# Altium footprint library MCUFINAL 06-1-2026-REVIEW 6.PcbLib: 26 footprints (part 1 of 2)
Each footprint in its own frame and in the unit in brackets; x right, y up, seen from the top. Pads: shape width x height; smd on the part's side, far side on the other; paste and mask are expansions set on the pad; w line width, h text height; cw(c..) or ccw(c..) is an arc to the next point about the centre after c.
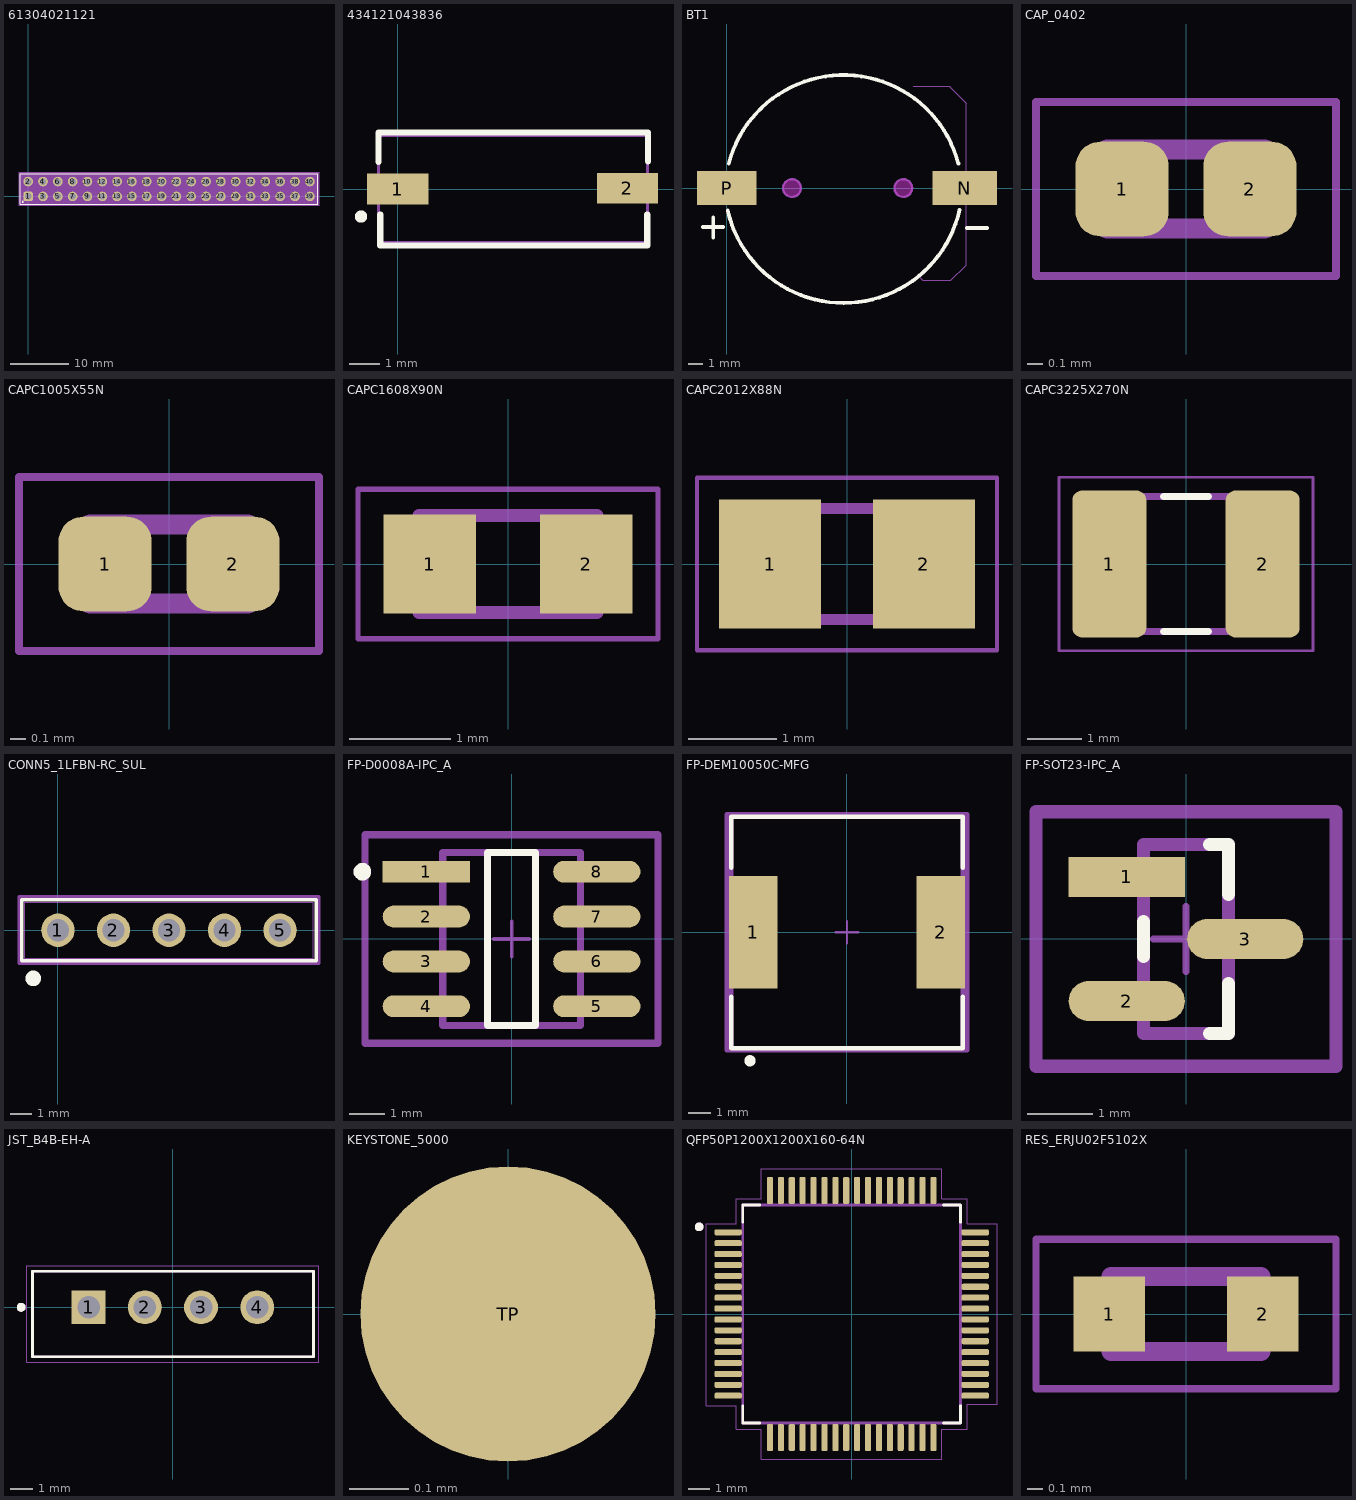
[diagram p0: the footprints below, top view; thin cyan lines are the x and y axes]

## 61304021121 [mm]
pads (40):
  rrect50% 1.65x1.65 hole 1.1: 1(0,0)
  round 1.65 hole 1.1: 2(0,2.54) 3(2.54,0) 4(2.54,2.54) 5(5.08,0) 6(5.08,2.54) 7(7.62,0) 8(7.62,2.54) 9(10.16,0) 10(10.16,2.54) 11(12.7,0) 12(12.7,2.54) 13(15.24,0) 14(15.24,2.54) 15(17.78,0) 16(17.78,2.54) 17(20.32,0) 18(20.32,2.54) 19(22.86,0) 20(22.86,2.54) 21(25.4,0) 22(25.4,2.54) 23(27.94,0) 24(27.94,2.54) 25(30.48,0) 26(30.48,2.54) 27(33.02,0) 28(33.02,2.54) 29(35.56,0) 30(35.56,2.54) 31(38.1,0) 32(38.1,2.54) 33(40.64,0) 34(40.64,2.54) 35(43.18,0) 36(43.18,2.54) 37(45.72,0) 38(45.72,2.54) 39(48.26,0) 40(48.26,2.54)
Top Overlay:
  circle w0.2: c-0.93,-0.93 r0.1
  lines w0.2: -1.37,-1.37 49.63,-1.37 49.63,3.91 -1.37,3.91 -1.37,-1.37
Mechanical 13:
  lines w0.1: -1.27,-1.27 49.53,-1.27 49.53,3.81 -1.27,3.81 -1.27,-1.27
Mechanical 15:
  region: 49.83,-1.57 -1.57,-1.57 -1.57,4.11 49.83,4.11
3D body "61304021121+%28rev1%29.stp": height 8.77, standoff -2.77, extent -1.27,-1.27 49.53,3.81

## 434121043836 [mm]
pads (2):
  rect 2x1 smd paste+0 mask+0.102: 1(0,0) 2(7.5,0.025)
Top Overlay:
  circle w0.2: c-1.2,-0.9 r0.1
  lines w0.2: -0.625,0.879 -0.625,1.85 8.175,1.85 8.175,0.901 ; -0.575,-0.829 -0.575,-1.85 8.15,-1.85 8.15,-0.832
Mechanical 13:
  lines w0.1: -0.625,-1.75 -0.625,1.75 8.15,1.75 8.15,-1.75 -0.625,-1.75
3D body "434121043836+%28rev1%29.stp": height 4.3, standoff 0, extent -0.25,-1.75 7.75,1.75

## BT1 [mm]
pads (2):
  rect 4.35x2.3 smd: N(16.039,0)
  rect 4x2.3 smd: P(0,0)
Top Overlay:
  lines w0.254: -1.6,-2.625 -0.225,-2.625 ; -0.9,-3.35 -0.9,-1.975 ; 0.07,-1.508 ccw(c7.874,0.254) 15.683,-1.481 ; 0.136,1.649 cw(c7.874,-0.381) 15.612,1.649 ; 16.175,-2.7 17.55,-2.7
Keep-Out Layer:
  board cut-out: 3.8,0 3.8,-0.119 3.891,-0.34 4.06,-0.509 4.281,-0.6 4.4,-0.6 4.519,-0.6 4.74,-0.509 4.909,-0.34 5,-0.119 5,0 5,0.119 4.909,0.34 4.74,0.509 4.519,0.6 4.4,0.6 4.281,0.6 4.06,0.509 3.891,0.34 3.8,0.119
  board cut-out: 11.3,0 11.3,-0.119 11.391,-0.34 11.56,-0.509 11.781,-0.6 11.9,-0.6 12.019,-0.6 12.24,-0.509 12.409,-0.34 12.5,-0.119 12.5,0 12.5,0.119 12.409,0.34 12.24,0.509 12.019,0.6 11.9,0.6 11.781,0.6 11.56,0.509 11.391,0.34 11.3,0.119
Mechanical 1:
  circle w0.152: c4.4,0 r0.6
  circle w0.152: c11.9,0 r0.6
  lines w0.05: 12.573,6.858 14.986,6.858 16.129,5.715 16.129,0.127 16.129,-5.207 15.113,-6.223 13.208,-6.223 12.827,-5.842
3D body "CR1220-2.stp": height 4, standoff -0.7, extent -1.75,-7.464 17.95,7.4

## CAP_0402 [mm]
pads (2):
  rrect53% 0.59x0.6 smd: 1(-0.405,0) 2(0.405,0)
Mechanical 13:
  lines w0.127: -0.5,-0.25 0.5,-0.25 0.5,0.25 -0.5,0.25 -0.5,-0.25
Mechanical 15:
  lines w0.05: -0.95,-0.55 0.95,-0.55 0.95,0.55 -0.95,0.55 -0.95,-0.55
3D body "step_temp.STEP": height 0.55, standoff 0, extent -0.5,-0.25 0.5,0.25

## CAPC1005X55N [mm]
pads (2):
  rrect53% 0.59x0.6 smd: 1(-0.405,0) 2(0.405,0)
Mechanical 13:
  lines w0.127: -0.5,-0.25 0.5,-0.25 0.5,0.25 -0.5,0.25 -0.5,-0.25
Mechanical 15:
  lines w0.05: -0.95,-0.55 0.95,-0.55 0.95,0.55 -0.95,0.55 -0.95,-0.55
3D body "step_temp.STEP": height 0.55, standoff 0, extent -0.5,-0.25 0.5,0.25

## CAPC1608X90N [mm]
pads (2):
  rect 0.92x0.98 smd: 1(-0.775,0) 2(0.775,0)
Mechanical 13:
  lines w0.127: -0.88,-0.48 -0.88,0.48 0.88,0.48 0.88,-0.48 -0.88,-0.48
Mechanical 15:
  lines w0.05: -1.485,-0.74 -1.485,0.74 1.485,0.74 1.485,-0.74 -1.485,-0.74
3D body "step_temp.STEP": height 0.9, standoff 0, extent -0.8,-0.405 0.8,0.405

## CAPC2012X88N [mm]
pads (2):
  rect 1.16x1.47 smd: 1(-0.875,0) 2(0.875,0)
Mechanical 13:
  lines w0.127: -1,-0.63 -1,0.63 1,0.63 1,-0.63 -1,-0.63
Mechanical 15:
  lines w0.05: -1.708,-0.983 -1.708,0.983 1.708,0.983 1.708,-0.983 -1.708,-0.983
3D body "step_temp.STEP": height 0.88, standoff 0, extent -1,-0.625 1,0.625

## CAPC3225X270N [mm]
pads (2):
  rrect25% 1.37x2.72 smd: 1(-1.421,0) 2(1.421,0)
Top Overlay:
  lines w0.127: -0.42,-1.25 0.42,-1.25 ; -0.42,1.25 0.42,1.25
Mechanical 13:
  lines w0.127: -1.6,-1.25 -1.6,1.25 1.6,1.25 1.6,-1.25 -1.6,-1.25
Mechanical 15:
  lines w0.05: -2.356,-1.61 -2.356,1.61 2.356,1.61 2.356,-1.61 -2.356,-1.61
3D body "step_temp.STEP": height 2.7, standoff 0, extent -1.6,-1.25 1.6,1.25

## CONN5_1LFBN-RC_SUL [mil]
pads (5):
  round 60 hole 40 paste-99999 mask+0: 1(0,0) 2(100,0) 3(200,0) 4(300,0) 5(400,0)
Top Overlay:
  circle w20: c-44.29,-86.61 r3.94
  lines w6: -65,-55 465,-55 465,55 -65,55 -65,-55
Bottom Overlay:
  circle w20: c-44.29,-87.6 r3.94
Mechanical 13:
  lines w1: -60,-50 460,-50 460,50 -60,50 -60,-50
Mechanical 15:
  lines w6: -70,-60 -70,60 470,60 470,-60 -70,-60
3D body "PPTC051LFBN-RC.STEP": height 335, standoff -126, extent -60,-50 460,50

## FP-D0008A-IPC_A [mm]
pads (8):
  rect 2.469x0.622 smd paste+0 mask+0: 1(-2.414,1.905)
  rrect100% 2.469x0.622 smd paste+0 mask+0: 2(-2.414,0.635) 3(-2.414,-0.635) 4(-2.414,-1.905) 5(2.414,-1.905) 6(2.414,-0.635) 7(2.414,0.635) 8(2.414,1.905)
Top Overlay:
  circle w0.25: c-4.223,1.905 r0.125
  lines w0.2: -0.679,-2.452 -0.679,2.453 0.679,2.453 0.679,-2.452 -0.679,-2.452
Top 3D Body:
  lines w0.2: -1.947,-2.452 -1.947,2.453 1.947,2.453 1.947,-2.452 -1.947,-2.452
Top Courtyard:
  lines w0.2: -4.148,-2.953 -4.148,2.952 4.148,2.952 4.148,-2.953 -4.148,-2.953
Top Assembly:
  lines w0.2: -4.148,-2.953 -4.148,2.952 4.148,2.952 4.148,-2.953 -4.148,-2.953
  text ".Designator" at 0,0.188 h1
Top Component Center:
  lines w0.1: -0.5,0 0.5,0 ; 0,-0.5 0,0.5
3D body "IC_Texas_Instruments_SN75LBC176DR_eec.STEP": height 1.75, standoff 0, extent -3,-2.45 3,2.45

## FP-DEM10050C-MFG [mm]
pads (2):
  rect 2.15x5 smd paste+0 mask+0: 1(-4.175,0) 2(4.175,0)
Top Overlay:
  circle w0.25: c-4.318,-5.715 r0.125
  lines w0.2: -5.15,-2.875 -5.15,-5.15 5.15,-5.15 5.15,-2.875 ; -5.15,2.875 -5.15,5.15 5.15,5.15 5.15,2.875
Top 3D Body:
  lines w0.2: -5.15,-5.15 5.15,-5.15 5.15,5.15 -5.15,5.15 -5.15,-5.15
Top Courtyard:
  lines w0.2: -5.35,-5.25 5.35,-5.25 5.35,5.25 -5.35,5.25 -5.35,-5.25
Top Assembly:
  lines w0.2: -5.35,-5.25 5.35,-5.25 5.35,5.25 -5.35,5.25 -5.35,-5.25
  text ".Designator" at 0,0.188 h1
Top Component Center:
  lines w0.1: -0.5,0 0.5,0 ; 0,-0.5 0,0.5
3D body "Ind_Murata_1274AS-H-100M=P3_eec.STEP": height 0.25, standoff 0, extent -5.35,-5.25 5.35,5.25

## FP-SOT23-IPC_A [mm]
pads (3):
  rect 1.781x0.612 smd paste+0 mask+0: 1(-0.908,0.95)
  rrect100% 1.781x0.612 smd paste+0 mask+0: 2(-0.908,-0.95) 3(0.908,0)
Top Overlay:
  lines w0.2: -0.65,-0.269 -0.65,0.269 ; 0.358,-1.45 0.65,-1.45 0.65,-0.681 ; 0.358,1.45 0.65,1.45 0.65,0.681
Top 3D Body:
  lines w0.2: -0.65,-1.45 0.65,-1.45 0.65,1.45 -0.65,1.45 -0.65,-1.45
Top Courtyard:
  lines w0.2: -2.298,-1.95 2.298,-1.95 2.298,1.95 -2.298,1.95 -2.298,-1.95
Top Assembly:
  lines w0.2: -2.298,-1.95 2.298,-1.95 2.298,1.95 -2.298,1.95 -2.298,-1.95
  text ".Designator" at 0,-0.001 h1
Top Component Center:
  lines w0.1: -0.5,0 0.5,0 ; 0,-0.5 0,0.5
3D body "Diode_Bourns_Inc_CDSOT23-SM712_eec.STEP": height 1.17, standoff 0, extent -1.148,-1.45 1.148,1.45

## JST_B4B-EH-A [mm]
pads (4):
  rect 1.508x1.508 hole 1: 1(-3.75,0)
  round 1.508 hole 1: 2(-1.25,0) 3(1.25,0) 4(3.75,0)
Top Overlay:
  circle w0.2: c-6.75,0 r0.1
  lines w0.127: -6.25,-2.2 6.25,-2.2 6.25,1.6 -6.25,1.6 -6.25,-2.2
Mechanical 13:
  circle w0.2: c-6.75,0 r0.1
  lines w0.127: -6.25,-2.2 6.25,-2.2 6.25,1.6 -6.25,1.6 -6.25,-2.2
Mechanical 15:
  lines w0.05: -6.5,-2.45 6.5,-2.45 6.5,1.85 -6.5,1.85 -6.5,-2.45
3D body "step_temp.STEP": height 6, standoff -3.2, extent -6.25,-2.2 6.25,1.6

## KEYSTONE_5000 [mm]
pads (1):
  round 0.5 smd: TP(0,0)

## QFP50P1200X1200X160-64N [mm]
pads (64):
  rrect50% 1.25x0.28 smd: 1(-5.67,3.75) 2(-5.67,3.25) 3(-5.67,2.75) 4(-5.67,2.25) 5(-5.67,1.75) 6(-5.67,1.25) 7(-5.67,0.75) 8(-5.67,0.25) 9(-5.67,-0.25) 10(-5.67,-0.75) 11(-5.67,-1.25) 12(-5.67,-1.75) 13(-5.67,-2.25) 14(-5.67,-2.75) 15(-5.67,-3.25) 16(-5.67,-3.75) 33(5.67,-3.75) 34(5.67,-3.25) 35(5.67,-2.75) 36(5.67,-2.25) 37(5.67,-1.75) 38(5.67,-1.25) 39(5.67,-0.75) 40(5.67,-0.25) 41(5.67,0.25) 42(5.67,0.75) 43(5.67,1.25) 44(5.67,1.75) 45(5.67,2.25) 46(5.67,2.75) 47(5.67,3.25) 48(5.67,3.75)
  rrect50% 0.28x1.25 smd: 17(-3.75,-5.67) 18(-3.25,-5.67) 19(-2.75,-5.67) 20(-2.25,-5.67) 21(-1.75,-5.67) 22(-1.25,-5.67) 23(-0.75,-5.67) 24(-0.25,-5.67) 25(0.25,-5.67) 26(0.75,-5.67) 27(1.25,-5.67) 28(1.75,-5.67) 29(2.25,-5.67) 30(2.75,-5.67) 31(3.25,-5.67) 32(3.75,-5.67) 49(3.75,5.67) 50(3.25,5.67) 51(2.75,5.67) 52(2.25,5.67) 53(1.75,5.67) 54(1.25,5.67) 55(0.75,5.67) 56(0.25,5.67) 57(-0.25,5.67) 58(-0.75,5.67) 59(-1.25,5.67) 60(-1.75,5.67) 61(-2.25,5.67) 62(-2.75,5.67) 63(-3.25,5.67) 64(-3.75,5.67)
Top Overlay:
  circle w0.2: c-7,4 r0.1
  lines w0.127: -5,-4.216 -5,-5 -4.216,-5 ; -5,4.216 -5,5 -4.216,5 ; 4.216,-5 5,-5 5,-4.216 ; 4.216,5 5,5 5,4.216
Mechanical 13:
  circle w0.2: c-7,4 r0.1
  lines w0.127: -5,-5 -5,5 5,5 5,-5 -5,-5
Mechanical 15:
  lines w0.05: -6.67,-4.2 -6.67,4.14 -5.3,4.14 -5.3,5.3 -4.14,5.3 -4.14,6.67 4.14,6.67 4.14,5.3 5.3,5.3 5.3,4.14 6.67,4.14 6.67,-4.14 5.3,-4.14 5.3,-5.3 4.14,-5.3 4.14,-6.67 -4.14,-6.67 -4.14,-5.3 -5.3,-5.3 -5.3,-4.2 -6.67,-4.2
3D body "step_temp.STEP": height 1.6, standoff 0, extent -6,-6 6,6

## RES_ERJU02F5102X [mm]
pads (2):
  rect 0.475x0.5 smd: 1(-0.512,0) 2(0.512,0)
Mechanical 13:
  lines w0.127: -0.5,-0.25 0.5,-0.25 0.5,0.25 -0.5,0.25 -0.5,-0.25
Mechanical 15:
  lines w0.05: -1,-0.5 1,-0.5 1,0.5 -1,0.5 -1,-0.5